# Altium footprint library lazer-sensor-for-trespassers.PcbLib: 16 footprints
Each footprint in its own frame and in the unit in brackets; x right, y up, seen from the top. Pads: shape width x height; smd on the part's side, far side on the other; paste and mask are expansions set on the pad; w line width, h text height; cw(c..) or ccw(c..) is an arc to the next point about the centre after c.
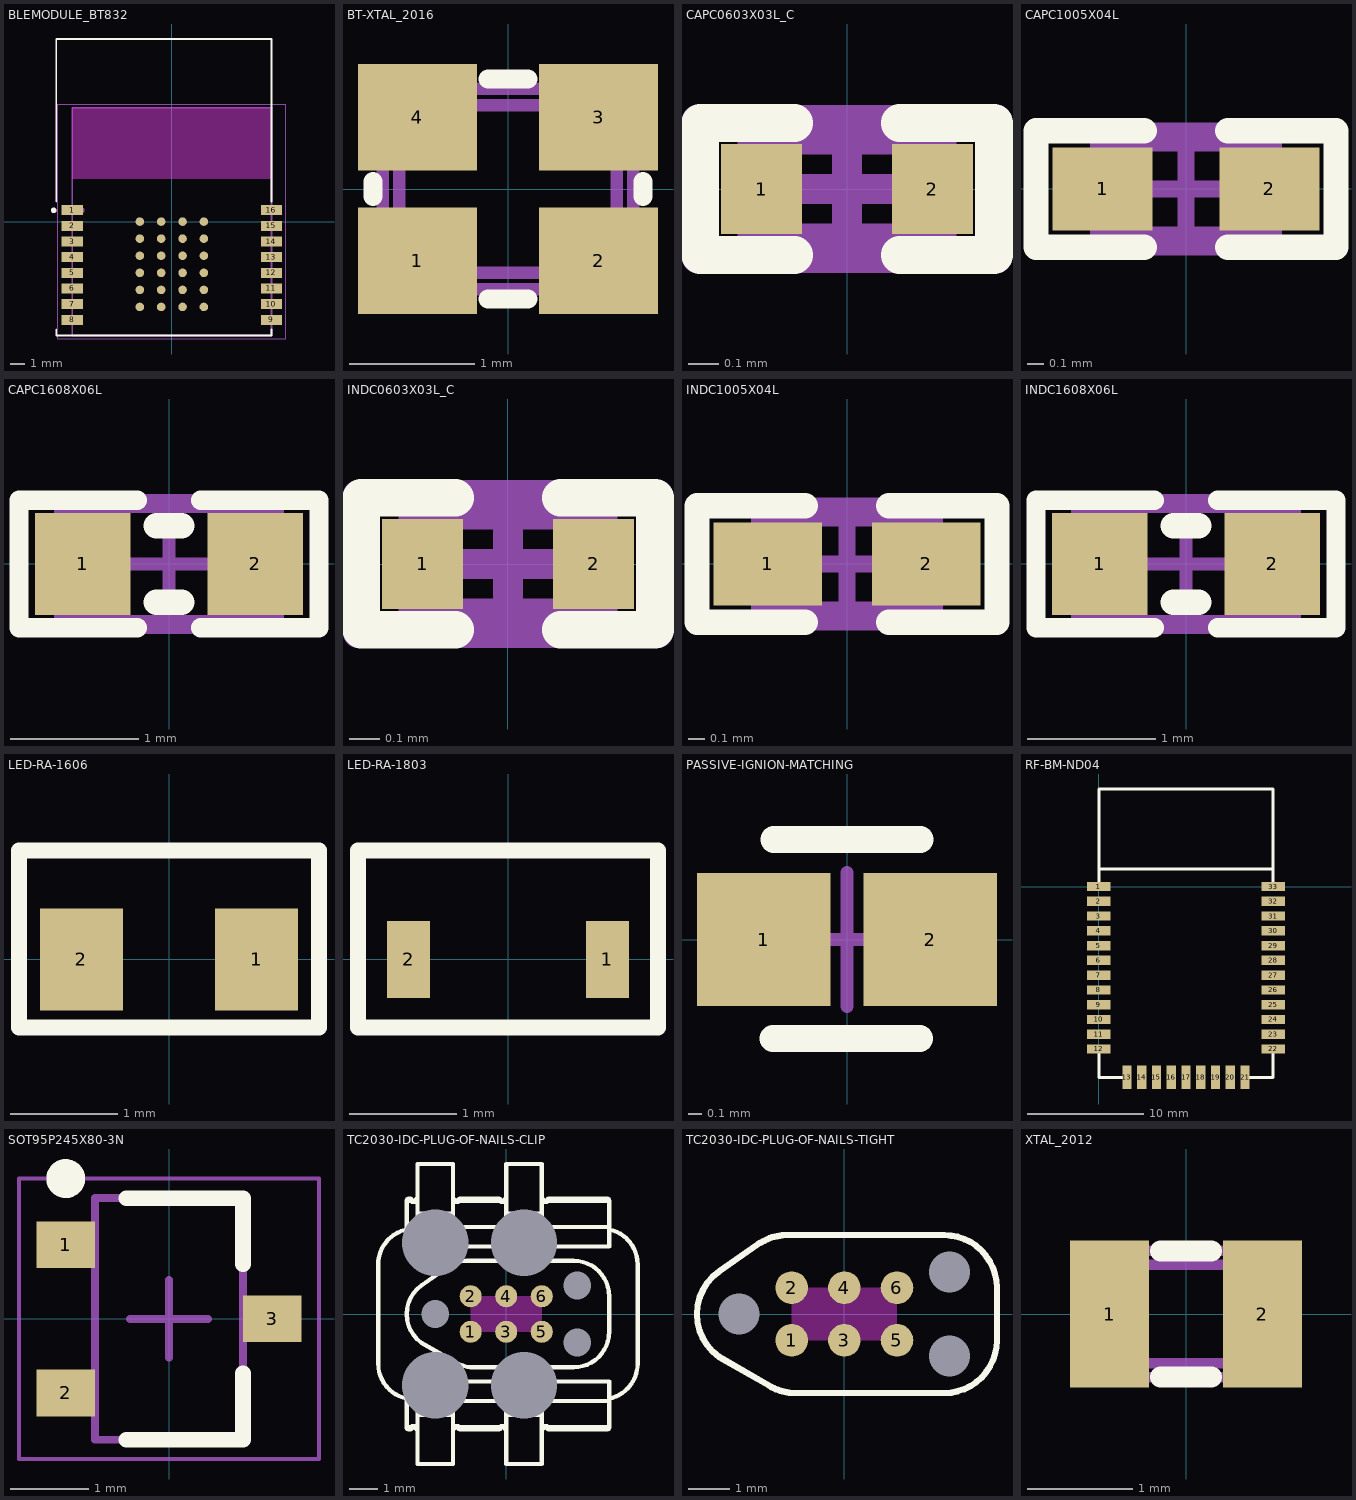
[diagram p0: the footprints below, top view; thin cyan lines are the x and y axes]

## BLEMODULE_BT832 [mm]
pads (40):
  rect 1.5x0.7 smd: 1(-7,0.8) 2(-7,-0.3) 3(-7,-1.4) 4(-7,-2.5) 5(-7,-3.6) 6(-7,-4.7) 7(-7,-5.8) 8(-7,-6.9) 9(7,-6.9) 10(7,-5.8) 11(7,-4.7) 12(7,-3.6) 13(7,-2.5) 14(7,-1.4) 15(7,-0.3) 16(7,0.8)
  round 0.6 smd: A0(-2.25,0) A1(-2.25,-1.2) A2(-2.25,-2.4) A3(-2.25,-3.6) A4(-2.25,-4.8) A5(-2.25,-6) B0(-0.75,0) B1(-0.75,-1.2) B2(-0.75,-2.4) B3(-0.75,-3.6) B4(-0.75,-4.8) B5(-0.75,-6) C0(0.75,0) C1(0.75,-1.2) C2(0.75,-2.4) C3(0.75,-3.6) C4(0.75,-4.8) C5(0.75,-6) D0(2.25,0) D1(2.25,-1.2) D2(2.25,-2.4) D3(2.25,-3.6) D4(2.25,-4.8) D5(2.25,-6)
Top Overlay:
  circle w0.2: c-8.3,0.79 r0.1
  lines w0.127: -8.128,-7.59 -8.128,-8 7,-8 7,-7.59 ; -8.128,1.39 -8.128,12.827 7,12.827 7,1.39
Keep-Out Layer:
  region: 7,3.005 -7.013,3.005 -7.013,8 7,8
Mechanical 13:
  circle w0.2: c-6.325,0.79 r0.1
  lines w0.127: 7,1.58 7,-8 -7,-8 -7,8 7,8 7,1.59
Mechanical 15:
  lines w0.05: -8,-8.25 -8,8.25 8,8.25 8,-8.25 -8,-8.25
3D body "BT832AF.STEP": height 1.9, standoff 0, extent -8,-8 7,12.8

## BT-XTAL_2016 [mm]
pads (4):
  rect 0.95x0.85 smd: 1(-0.725,-0.575) 2(0.725,-0.575) 3(0.725,0.575) 4(-0.725,0.575)
Top Overlay:
  lines w0.152: -1.08,-0.06 -1.08,0.06 ; -0.16,-0.88 0.16,-0.88 ; -0.16,0.88 0.16,0.88 ; 1.08,-0.06 1.08,0.06
Mechanical 7:
  lines w0.1: -1,-0.7 cw(c-1,-0.8) -0.9,-0.8 0.9,-0.8 cw(c1,-0.8) 1,-0.7 1,0.7 cw(c1,0.8) 0.9,0.8 -0.9,0.8 cw(c-1,0.8) -1,0.7 -1,-0.7 ; -0.87,-0.57 ccw(c-0.77,-0.57) -0.77,-0.67 0.77,-0.67 ccw(c0.77,-0.57) 0.87,-0.57 0.87,0.57 ccw(c0.77,0.57) 0.77,0.67 -0.77,0.67 ccw(c-0.77,0.57) -0.87,0.57 -0.87,-0.57
  text ".Designator" at -0.29,-0.21 h0.38
3D body: height 0.56, standoff 0.15, extent -0.7,-0.65 0.7,0.65
3D body "User Library-GeyerElectronics_KX5.step": height 0.56, standoff 0, extent -1.05,-0.85 1.05,0.85

## CAPC0603X03L_C [mm]
pads (2):
  rect 0.27x0.3 smd: 1(-0.285,0) 2(0.285,0)
Top Overlay:
  lines w0.125: -0.175,-0.22 -0.49,-0.22 -0.49,0.22 -0.175,0.22 ; 0.175,-0.22 0.49,-0.22 0.49,0.22 0.175,0.22
Mechanical 7:
  lines w0.1: -0.315,-0.165 0.315,-0.165 0.315,0.165 -0.315,0.165 -0.315,-0.165
  text ".Designator" at -0.306,0.268 h0.38
Mechanical 15:
  lines w0.1: -0.165,0 0.165,0 ; 0,-0.165 0,0.165 ; -0.5,-0.23 0.5,-0.23 0.5,0.23 -0.5,0.23 -0.5,-0.23
3D body "User Library-0201(0603M) Cap.step": height 0.3, standoff -0.01, extent -0.305,-0.152 0.305,0.153

## CAPC1005X04L [mm]
pads (2):
  rect 0.6x0.5 smd: 1(-0.5,0) 2(0.5,0)
Top Overlay:
  lines w0.152: -0.25,-0.35 -0.9,-0.35 -0.9,0.35 -0.25,0.35 ; 0.25,-0.35 0.9,-0.35 0.9,0.35 0.25,0.35
Mechanical 7:
  lines w0.1: -0.525,-0.275 0.525,-0.275 0.525,0.275 -0.525,0.275 -0.525,-0.275
  text ".Designator" at -0.432,-0.152 h0.3
Mechanical 15:
  lines w0.1: -0.275,0 0.275,0 ; 0,-0.275 0,0.275 ; -0.9,-0.35 -0.9,0.35 0.9,0.35 0.9,-0.35 -0.9,-0.35
3D body "User Library-0402(1005M) Cap.step": height 0.5, standoff -0.01, extent -0.508,-0.254 0.508,0.254

## CAPC1608X06L [mm]
pads (2):
  rect 0.75x0.8 smd: 1(-0.675,0) 2(0.675,0)
Top Overlay:
  lines w0.152: -0.25,-0.5 -1.175,-0.5 -1.175,0.5 -0.25,0.5 ; 0.25,-0.5 1.175,-0.5 1.175,0.5 0.25,0.5
  lines w0.2: -0.1,-0.3 0.1,-0.3 ; -0.1,0.3 0.1,0.3
Mechanical 7:
  lines w0.1: -0.85,-0.45 0.85,-0.45 0.85,0.45 -0.85,0.45 -0.85,-0.45
  text ".Designator" at -0.685,-0.142 h0.38
Mechanical 15:
  lines w0.1: -0.45,0 0.45,0 ; 0,-0.45 0,0.45 ; -1.175,-0.5 1.175,-0.5 1.175,0.5 -1.175,0.5 -1.175,-0.5
3D body "User Library-Chip Capacitor 0603.step": height 0.8, standoff 0, extent -0.8,-0.43 0.8,0.43

## INDC0603X03L_C [mm]
pads (2):
  rect 0.27x0.3 smd: 1(-0.285,0) 2(0.285,0)
Top Overlay:
  lines w0.125: -0.175,-0.22 -0.49,-0.22 -0.49,0.22 -0.175,0.22 ; 0.175,-0.22 0.49,-0.22 0.49,0.22 0.175,0.22
Mechanical 7:
  lines w0.1: -0.315,-0.165 -0.315,0.165 0.315,0.165 0.315,-0.165 -0.315,-0.165
  text ".Designator" at 0.302,0.714 h0.38
Mechanical 15:
  lines w0.1: -0.165,0 0.165,0 ; 0,-0.165 0,0.165 ; -0.5,-0.23 -0.5,0.23 0.5,0.23 0.5,-0.23 -0.5,-0.23
3D body "User Library-smt_inductor-0201.step": height 0.26, standoff -0.01, extent -0.31,-0.16 0.31,0.16

## INDC1005X04L [mm]
pads (2):
  rect 0.65x0.5 smd: 1(-0.475,0) 2(0.475,0)
Top Overlay:
  lines w0.152: -0.25,-0.35 -0.9,-0.35 -0.9,0.35 -0.25,0.35 ; 0.25,-0.35 0.9,-0.35 0.9,0.35 0.25,0.35
Mechanical 7:
  lines w0.1: -0.525,-0.275 0.525,-0.275 0.525,0.275 -0.525,0.275 -0.525,-0.275
  text ".Designator" at -0.315,-0.184 h0.38
Mechanical 15:
  lines w0.1: -0.275,0 0.275,0 ; 0,-0.275 0,0.275 ; -0.9,-0.35 0.9,-0.35 0.9,0.35 -0.9,0.35 -0.9,-0.35
3D body "User Library-Chip Inductor 0402.step": height 0.5, standoff 0, extent -0.5,-0.3 0.5,0.3

## INDC1608X06L [mm]
pads (2):
  rect 0.75x0.8 smd: 1(-0.675,0) 2(0.675,0)
Top Overlay:
  lines w0.152: -0.25,-0.5 -1.175,-0.5 -1.175,0.5 -0.25,0.5 ; 0.25,-0.5 1.175,-0.5 1.175,0.5 0.25,0.5
  lines w0.2: -0.1,-0.3 0.1,-0.3 ; -0.1,0.3 0.1,0.3
Mechanical 7:
  lines w0.1: -0.85,-0.45 -0.85,0.45 0.85,0.45 0.85,-0.45 -0.85,-0.45
  text ".Designator" at -0.324,-0.2 h0.38
Mechanical 15:
  lines w0.1: -0.45,0 0.45,0 ; 0,-0.45 0,0.45 ; -1.175,-0.5 -1.175,0.5 1.175,0.5 1.175,-0.5 -1.175,-0.5
3D body "User Library-Chip Inductor.step": height 0.8, standoff 0, extent -0.8,-0.475 0.8,0.475

## LED-RA-1606 [mm] "Right angle LED 1.1x1.7mm"
pads (2):
  rect 0.77x0.95 smd: 1(0.815,0) 2(-0.815,0)
Top Overlay:
  lines w0.15: -1.397,-0.635 1.397,-0.635 1.397,1.016 -1.397,1.016 -1.397,-0.635
3D body "Diode_Kingbright_APA1606SECK_eec.STEP": height 0.25, standoff 0, extent -1.35,-0.554 1.35,1.096

## LED-RA-1803 [mm] "Right angle LED 1803 metric footprint"
pads (2):
  rect 0.4x0.72 smd: 1(0.925,0) 2(-0.925,0)
Top Overlay:
  lines w0.15: -1.397,-0.635 -1.397,1.016 1.397,1.016 1.397,-0.635 -1.397,-0.635
3D body "48-213.STEP": height 0.3, standoff 0, extent -0.91,-0.3 0.91,0.7

## PASSIVE-IGNION-MATCHING [mm] "Pads for matching components as recommended by Ignion"
pads (2):
  rect 1x1 smd paste+0 mask+0: 1(-0.625,0) 2(0.625,0)
Top Overlay:
  lines w0.2: -0.555,-0.741 0.545,-0.741 ; -0.55,0.75 0.55,0.75
Top 3D Body:
  lines w0.2: -0.55,-0.35 -0.55,0.35 ; 0.55,-0.35 0.55,0.35
Top Component Center:
  lines w0.1: -0.5,0 0.5,0 ; 0,-0.5 0,0.5
3D body "Ind_Murata_LQW15AN10NG80B_eec.STEP": height 0.25, standoff 0, extent -0.81,-0.45 0.81,0.45

## RF-BM-ND04 [mm] "RF-Star 15 x 24.8mm module with dual internal crystal."
pads (33):
  rect 2x0.8 smd: 1(0,0) 2(0,-1.27) 3(0,-2.54) 4(0,-3.81) 5(0,-5.08) 6(0,-6.35) 7(0,-7.62) 8(0,-8.89) 9(0,-10.16) 10(0,-11.43) 11(0,-12.7) 12(0,-13.97) 22(15,-13.97) 23(15,-12.7) 24(15,-11.43) 25(15,-10.16) 26(15,-8.89) 27(15,-7.62) 28(15,-6.35) 29(15,-5.08) 30(15,-3.81) 31(15,-2.54) 32(15,-1.27) 33(15,0)
  rect 0.8x2 smd: 13(2.42,-16.41) 14(3.69,-16.41) 15(4.96,-16.41) 16(6.23,-16.41) 17(7.5,-16.41) 18(8.77,-16.41) 19(10.04,-16.41) 20(11.31,-16.41) 21(12.58,-16.41)
Top Overlay:
  lines w0.254: 0,-14.37 0,-16.41 2.02,-16.41 ; 0,0.4 0,8.39 15,8.39 15,0.4 ; 0,1.5 15,1.5 ; 12.98,-16.41 15,-16.41 15,-14.37
3D body "RF-BM-ND04-3D.step": height 1.6, standoff -0.01, extent -0.02,-16.397 14.992,8.417

## SOT95P245X80-3N [mm] "SOT-23F Package 2.9×2.4×0.8mm"
pads (3):
  rect 0.75x0.6 smd: 1(-1.325,0.95) 2(-1.325,-0.95) 3(1.325,0)
Top Overlay:
  circle w0.25: c-1.325,1.8 r0.125
  lines w0.2: -0.55,-1.55 0.95,-1.55 0.95,-0.7 ; -0.55,1.55 0.95,1.55 0.95,0.7
Mechanical 13:
  lines w0.1: -0.95,-1.55 -0.95,1.55 0.95,1.55 0.95,-1.55 -0.95,-1.55
Mechanical 15:
  lines w0.05: -1.925,-1.8 -1.925,1.8 1.925,1.8 1.925,-1.8 -1.925,-1.8
  lines w0.1: -0.5,0 0.5,0 ; 0,-0.5 0,0.5
3D body "TCS40DLR_LF.step": height 0.88, standoff 0, extent -1.2,-1.45 1.2,1.45

## TC2030-IDC-PLUG-OF-NAILS-CLIP [mil] "6 pin plug of nail connector"
pads (13):
  round 31 smd paste-99999: 1(-50,-25) 2(-50,25) 3(0,-25) 4(0,25) 5(50,-25) 6(50,25)
  round 3.94 hole 93.5 unplated: 15(-100,-100) 15(25,-100) 15(25,100)
  round 3.94 hole 39 unplated: 15(-100,0) 15(100,-40) 15(100,40)
  round 3.94 hole 93.5 unplated paste-99999: 15(-100,100)
Top Layer keep-out:
  region: -34.5,-25 -34.8,-21.98 -37.11,-16.39 -41.39,-12.11 -46.98,-9.8 -50,-9.5 -50,9.5 -46.98,9.8 -41.39,12.11 -37.11,16.39 -34.8,21.98 -34.5,25 -15.5,25 -15.2,21.98 -12.89,16.39 -8.61,12.11 -3.02,9.8 3.02,9.8 8.61,12.11 12.89,16.39 15.2,21.98 15.5,25 34.5,25 34.8,21.98 37.11,16.39 41.39,12.11 46.98,9.8 50,9.5 50,-9.5 46.98,-9.8 41.39,-12.11 37.11,-16.39 34.8,-21.98 34.5,-25 15.5,-25 15.2,-21.98 12.89,-16.39 8.61,-12.11 3.02,-9.8 -3.02,-9.8 -8.61,-12.11 -12.89,-16.39 -15.2,-21.98 -15.5,-25
Top Overlay:
  drawing of 367 lines, arcs and shapes, not listed

## TC2030-IDC-PLUG-OF-NAILS-TIGHT [mil] "6 pin plug of nail connector"
pads (9):
  round 31 smd paste-99999: 1(-50,-25) 2(-50,25) 3(0,-25) 4(0,25) 5(50,-25) 6(50,25)
  round 3.94 hole 39 unplated: 15(-100,0) 15(100,-40) 15(100,40)
Top Layer keep-out:
  region: -34.5,-25 -34.8,-21.98 -37.11,-16.39 -41.39,-12.11 -46.98,-9.8 -50,-9.5 -50,9.5 -46.98,9.8 -41.39,12.11 -37.11,16.39 -34.8,21.98 -34.5,25 -15.5,25 -15.2,21.98 -12.89,16.39 -8.61,12.11 -3.02,9.8 3.02,9.8 8.61,12.11 12.89,16.39 15.2,21.98 15.5,25 34.5,25 34.8,21.98 37.11,16.39 41.39,12.11 46.98,9.8 50,9.5 50,-9.5 46.98,-9.8 41.39,-12.11 37.11,-16.39 34.8,-21.98 34.5,-25 15.5,-25 15.2,-21.98 12.89,-16.39 8.61,-12.11 3.02,-9.8 -3.02,-9.8 -8.61,-12.11 -12.89,-16.39 -15.2,-21.98 -15.5,-25
Top Overlay:
  lines w6: -140,0.01 -139.45,-8.06 -137.49,-15.83 -134.44,-23.06 -130.27,-29.72 -125,-35.83 -118.89,-40.83 -71.11,-68.32 -69.16,-69.43 -67.22,-70.28 -65.27,-71.39 -63.04,-71.95 -61.11,-72.77 -59.16,-73.32 -56.93,-73.88 -54.71,-74.43 -52.49,-74.72 -50.56,-74.99 -48.33,-74.99 -46.11,-74.99 95,-74.99 101.4,-74.72 107.78,-73.32 113.89,-71.39 120,-68.32 125.29,-64.72 130.29,-60.55 134.45,-55.55 138.07,-49.99 141.11,-44.17 143.07,-38.06 144.45,-31.66 145,-24.99 145,25.01 144.45,31.39 143.07,37.79 141.11,44.17 138.07,50.01 134.45,55.28 130.29,60.28 125.29,64.72 120,68.34 113.89,71.12 107.78,73.34 101.4,74.46 95,75.01 -53.89,75.01 -56.38,75.01 -58.89,74.72 -61.38,74.46 -63.89,73.9 -66.38,73.34 -68.89,72.79 -71.38,71.94 -73.6,70.83 -75.82,69.72 -78.04,68.61 -80.27,67.5 -82.49,66.12 -118.89,40.57 -125,35.57 -130.27,29.72 -134.44,22.79 -137.49,15.57 -139.45,7.79 -140,0.01

## XTAL_2012 [mm]
pads (2):
  rect 0.75x1.4 smd: 1(-0.725,0) 2(0.725,0)
Top Overlay:
  lines w0.2: -0.24,-0.6 0.24,-0.6 ; -0.24,0.6 0.24,0.6
Mechanical 7:
  lines w0.1: -1,-0.5 cw(c-1,-0.6) -0.9,-0.6 0.9,-0.6 cw(c1,-0.6) 1,-0.5 1,0.5 cw(c1,0.6) 0.9,0.6 -0.9,0.6 cw(c-1,0.6) -1,0.5 -1,-0.5 ; -0.87,-0.37 ccw(c-0.77,-0.37) -0.77,-0.47 0.77,-0.47 ccw(c0.77,-0.37) 0.87,-0.37 0.87,0.37 ccw(c0.77,0.37) 0.77,0.47 -0.77,0.47 ccw(c-0.77,0.37) -0.87,0.37 -0.87,-0.37
  text ".Designator" at -0.328,-0.178 h0.38
3D body "User Library-ABS06.STEP": height 0.6, standoff 0, extent -1,-0.61 1,0.61
3D body: height 0.6, standoff 0.15, extent -0.825,-0.4 0.825,0.4